# EAGLE library part TEENSY-3.1 (library Arduino-Uno-Mega)
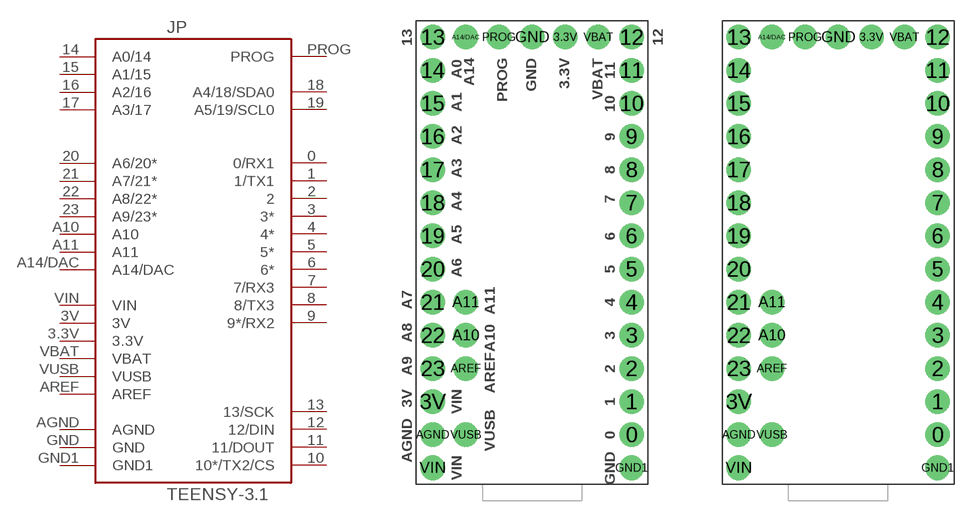
[diagram p20: symbol with the pads of TEENSY-3.1; footprints TEENSY-3.1, TEENSY-3.1_NOSILK]

Designator prefix JP

## TEENSY-3.1SILK (SF_ID: DEV-12646)  [TEENSY-3.1]
0  0/RX1
1  1/TX1
2  2
3  3*
3.3V  3.3V
3V  3V
4  4*
5  5*
6  6*
7  7/RX3
8  8/TX3
9  9*/RX2
10  10*/TX2/CS
11  11/DOUT
12  12/DIN
13  13/SCK
14  A0/14
15  A1/15
16  A2/16
17  A3/17
18  A4/18/SDA0
19  A5/19/SCL0
20  A6/20*
21  A7/21*
22  A8/22*
23  A9/23*
A10  A10
A11  A11
A14/DAC  A14/DAC
AGND  AGND
AREF  AREF
GND  GND
GND1  GND1
PROG  PROG
VBAT  VBAT
VIN  VIN
VUSB  VUSB

## TEENSY-3.1NOSILK (SF_ID: DEV-12646)  [TEENSY-3.1_NOSILK]
Pads as for TEENSY-3.1

## Footprint TEENSY-3.1 (pad centres in mm)
drill 1.016 pad 1.88: 0 16.51,3.81; 1 16.51,6.35; 2 16.51,8.89; 3 16.51,11.43; 3.3V 11.43,34.29; 3V 1.27,6.35; 4 16.51,13.97; 5 16.51,16.51; 6 16.51,19.05; 7 16.51,21.59; 8 16.51,24.13; 9 16.51,26.67; 10 16.51,29.21; 11 16.51,31.75; 12 16.51,34.29; 13 1.27,34.29; 14 1.27,31.75; 15 1.27,29.21; 16 1.27,26.67; 17 1.27,24.13; 18 1.27,21.59; 19 1.27,19.05; 20 1.27,16.51; 21 1.27,13.97; 22 1.27,11.43; 23 1.27,8.89; A10 3.81,11.43; A11 3.81,13.97; A14/DAC 3.81,34.29; AGND 1.27,3.81; AREF 3.81,8.89; GND 8.89,34.29; GND1 16.51,1.27; PROG 6.35,34.29; VBAT 13.97,34.29; VIN 1.27,1.27; VUSB 3.81,3.81

## Footprint TEENSY-3.1_NOSILK (pad centres in mm)
drill 1.016 pad 1.88: 0 16.51,3.81; 1 16.51,6.35; 2 16.51,8.89; 3 16.51,11.43; 3.3V 11.43,34.29; 3V 1.27,6.35; 4 16.51,13.97; 5 16.51,16.51; 6 16.51,19.05; 7 16.51,21.59; 8 16.51,24.13; 9 16.51,26.67; 10 16.51,29.21; 11 16.51,31.75; 12 16.51,34.29; 13 1.27,34.29; 14 1.27,31.75; 15 1.27,29.21; 16 1.27,26.67; 17 1.27,24.13; 18 1.27,21.59; 19 1.27,19.05; 20 1.27,16.51; 21 1.27,13.97; 22 1.27,11.43; 23 1.27,8.89; A10 3.81,11.43; A11 3.81,13.97; A14/DAC 3.81,34.29; AGND 1.27,3.81; AREF 3.81,8.89; GND 8.89,34.29; GND1 16.51,1.27; PROG 6.35,34.29; VBAT 13.97,34.29; VIN 1.27,1.27; VUSB 3.81,3.81